# Altium schematic symbol library FT245RL.Schlib: 1 symbol
Pins are listed as number, name and electrical type; pins without a type are passive.

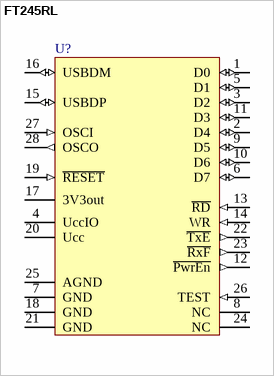
[diagram p0: symbol FT245RL]

## FT245RL
designator U?
USB to FIFO intarface, 32-Pin TQFP; Package Information: Latest Revision: ver11.0, Feb-2003; Configures: APEX II, APEX 20K, Mercury, ACEX 1K & FLEX Devices; Code - JEDEC: MS-026-ABA; Published: 17-Sep-2003; Datasheet: Latest Revision: ver1.1, Oct-2003; Package Reference: TQFP32; Publisher: Altium Limited
footprint SSOP-28
pins: 1 D0 (io), 2 D4 (io), 3 D2 (io), 4 UccIO (power), 5 D1 (io), 6 D7 (io), 7 GND (power) "Mode select for VPP", 8 NC, 9 D5 (io), 10 D6 (io), 11 D3 (io), 12 ~{PwrEn} (out), 13 ~{RD} (in), 14 WR (in), 15 USBDP (io) "1k5 pull-up to 3V3out", 16 USBDM (io), 17 3V3out (power), 18 GND (power) "No Connect", 19 ~{RESET} (in), 20 Ucc (power), 21 GND (power) "No Connect", 22 ~{TxE} (out) "No Connect", 23 ~{RxF} (out), 24 NC, 25 AGND (power), 26 TEST (in), 27 OSCI (in) "6 MHz external osc", 28 OSCO (out) "6 MHz external osc"